# Altium integrated library Common Mode Choke Inductors.IntLib: 2 symbols
Pins are listed as number, name and electrical type; pins without a type are passive.

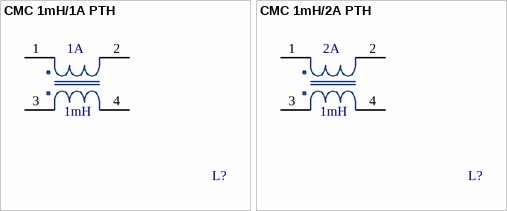
[diagram p0: symbols CMC 1mH/1A PTH to CMC 1mH/2A PTH]

## CMC 1mH/1A PTH
designator L?  Current: 1A  Inductance: 1mH  (hidden comment: CMC 1mH/1A PTH)
1mH @ 100kHz 2 Line Common Mode Choke Through Hole  1A DCR 70 mOhm; Manufacturer 1: KEMET; Manufacturer 1 PN: SC-01-10G; ComponentLink1Description: Datasheet; ComponentLink1URL: https://content.kemet.com/datasheets/KEM_LF0011_SC-G-GS.pdf; Digikey PN: 399-10629-ND; Mouser PN: 80-SC-01-10G
footprint CMC 1mH/1A PTH (1mH @ 100kHz 2 Line Common Mode Choke Through Hole  1A DCR 70 mOhm)
pins: 1 (power), 2 (power), 3 (power), 4 (power)

## CMC 1mH/2A PTH
designator L?  Current: 2A  Inductance: 1mH  (hidden comment: CMC 1mH/2A PTH)
1mH @ 100kHz 2 Line Common Mode Choke Through Hole  2A DCR 50 mOhm; Manufacturer 1: KEMET; Manufacturer 1 PN: SC-02-10G; ComponentLink1Description: Datasheet; ComponentLink1URL: https://content.kemet.com/datasheets/KEM_LF0011_SC-G-GS.pdf; Digikey PN: 399-10635-ND; Mouser PN: 80-SC-02-10G
footprint CMC 1mH/2A PTH (1mH @ 100kHz 2 Line Common Mode Choke Through Hole  2A DCR 50 mOhm)
pins: 1 (power), 2 (power), 3 (power), 4 (power)